# EAGLE library part CON-RJ45 (library m-pad)
Various RJ45 Surface Mount Jacks Kycon Molex Please send any comments to: messi@users.sourceforge.net
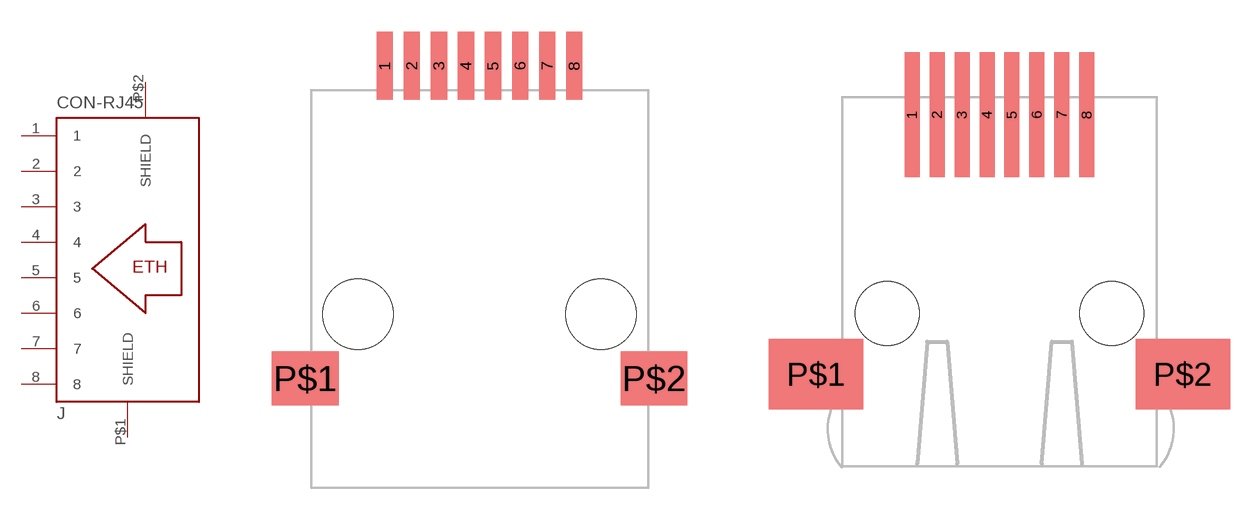
[diagram p119: symbol with the pads of GM-SMT2-S2-88; footprints GM-SMT2-S2-88, CON-85543-0001]

Designator prefix J

## CON-RJ45-1  [GM-SMT2-S2-88]
1  1  pas
2  2  pas
3  3  pas
4  4  pas
5  5  pas
6  6  pas
7  7  pas
8  8  pas
P$1  SHIELD  pas
P$2  SHIELD  pas

## CON-RJ45-2  [CON-85543-0001]
Pads as for GM-SMT2-S2-88

## Footprint GM-SMT2-S2-88 (pad centres in mm)
Kycon's GM-SMT2-S2-88 GM-SMT2 Series Surface Mount Modular Jack Features: 0.45" Height Low Profile Design Suitable for PC Add-On Board Applications Available in 4, 6, 8, and 10 Position Housings Available Fully Shielded for EMI/RFI Protection CSA/NRTL Certified File No. LR78160 Please send any comments to: messi@users.sourceforge.net
smd 0.76 x 3.185: 1 -4.445,11.665; 2 -3.175,11.665; 3 -1.905,11.665; 4 -0.635,11.665; 5 0.635,11.665; 6 1.905,11.665; 7 3.175,11.665; 8 4.445,11.665
smd 3.12 x 2.54: P$1 -8.175,-3.005; P$2 8.175,-3.005
hole 3.3 at -5.7,0
hole 3.3 at 5.7,0

## Footprint CON-85543-0001 (pad centres in mm)
Molex 85543-0001 High speed right angle fully shielded modular jack (8-circuit) RJ45 Connector
smd 0.762 x 6.35: 1 -4.445,17.907; 2 -3.175,17.907; 3 -1.905,17.907; 4 -0.635,17.907; 5 0.635,17.907; 6 1.905,17.907; 7 3.175,17.907; 8 4.445,17.907
smd 4.8 x 3.6: P$1 -9.327,4.7; P$2 9.327,4.7
hole 3.251 at -5.715,7.798
hole 3.251 at 5.715,7.798